# EAGLE library part ATTINY25 (library TinyGadget)
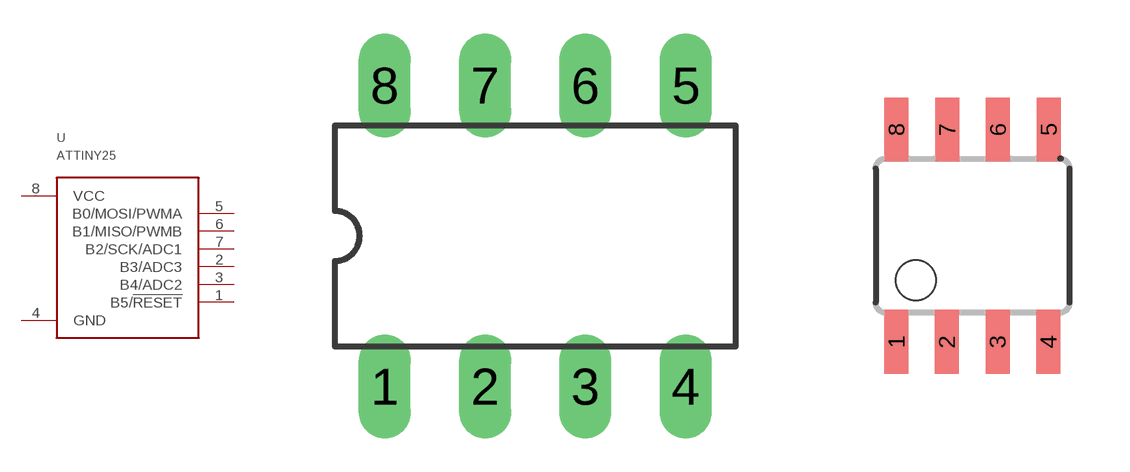
[diagram p1: symbol with the pads of DIL08; footprints DIL08, 8S1]

Designator prefix -

## ATTINY25TH_ATTINY  [DIL08]
1  B5/!RESET
2  B3/ADC3
3  B4/ADC2
4  GND
5  B0/MOSI/PWMA
6  B1/MISO/PWMB
7  B2/SCK/ADC1
8  VCC

## ATTINY25SM_ATTINY  [8S1]
Pads as for DIL08

## Footprint DIL08 (pad centres in mm)
Dual In Line
drill 0.813 long: 1 -3.81,-3.81; 2 -1.27,-3.81; 3 1.27,-3.81; 4 3.81,-3.81; 5 3.81,3.81; 6 1.27,3.81; 7 -1.27,3.81; 8 -3.81,3.81

## Footprint 8S1 (pad centres in mm)
8S1 8-lead (0.150" Wide Body) Plastic Gull Wing Small Outline (JEDEC SOIC) Source: http://www.atmel.com/dyn/resources/prod_documents/2535S.pdf
smd 0.6 x 1.6: 1 -1.905,-2.654; 2 -0.645,-2.654; 3 0.625,-2.654; 4 1.895,-2.654; 5 1.905,2.654; 6 0.635,2.654; 7 -0.635,2.654; 8 -1.905,2.654